# Altium footprint library usbmin.PcbLib: 1 footprints
Each footprint in its own frame and in the unit in brackets; x right, y up, seen from the top. Pads: shape width x height; smd on the part's side, far side on the other; paste and mask are expansions set on the pad; w line width, h text height; cw(c..) or ccw(c..) is an arc to the next point about the centre after c.
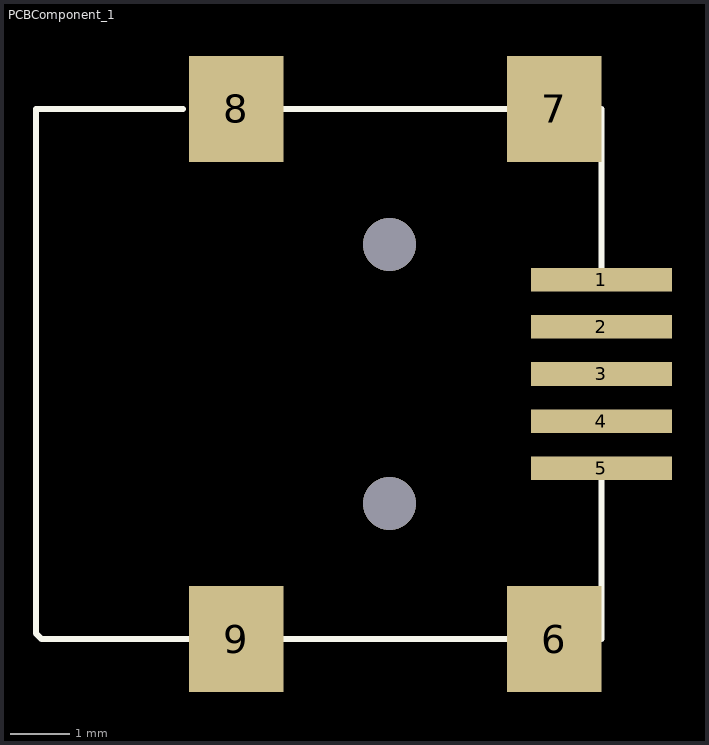
[diagram p0: the footprint, top view; thin cyan lines are the x and y axes]

## PCBComponent_1 [mm]
pads (9):
  rect 2.4x0.4 smd: 1(488.215,-541.249) 2(488.215,-542.049) 3(488.215,-542.849) 4(488.215,-543.649) 5(488.215,-544.449)
  rect 1.6x1.8 smd: 6(487.415,-547.349) 7(487.415,-538.349) 8(482.015,-538.349) 9(482.015,-547.349)
via 484.615,-545.049 diameter 0.9 hole 0.9
via 484.615,-540.649 diameter 0.9 hole 0.9
Top Overlay:
  lines w0.1: 481.115,-538.349 478.615,-538.349 478.615,-547.249 478.715,-547.349 481.215,-547.349 ; 482.815,-547.349 486.615,-547.349 ; 482.815,-538.349 486.615,-538.349 ; 488.215,-547.349 488.215,-544.649 ; 488.215,-541.049 488.215,-538.349